# Altium schematic symbol library Phone.SchLib: 4 symbols
Pins are listed as number, name and electrical type; pins without a type are passive.

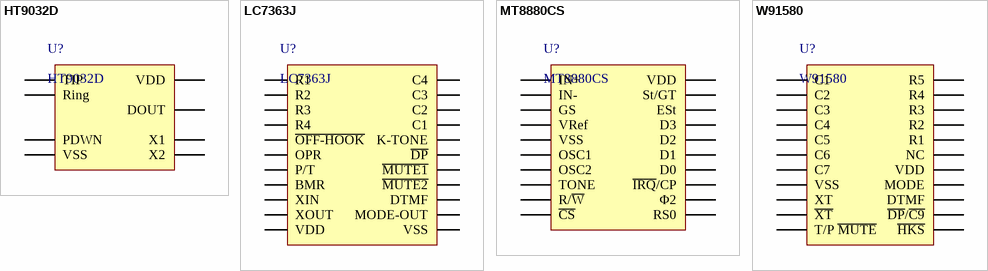
[diagram p0: symbols HT9032D to W91580]

## HT9032D
designator U?
Calling Line Identification Receiver
footprint DIP8
footprint TSSOP8
pins: 1 DOUT, 2 VDD, 3 TIP, 4 Ring, 5 PDWN, 6 VSS, 7 X2, 8 X1

## LC7363J
designator U?
DTMF/PULSE Switchable Dialer
footprint DIP22
pins: 1 R1, 2 R2, 3 R3, 4 R4, 5 ~{OFF-HOOK}, 6 OPR, 7 P/T, 8 BMR, 9 XIN, 10 XOUT, 11 VDD, 12 VSS, 13 MODE-OUT, 14 DTMF, 15 ~{MUTE2}, 16 ~{MUTE1}, 17 ~{DP}, 18 K-TONE, 19 C1, 20 C2, 21 C3, 22 C4

## MT8880CS
designator U?
Integrated DTMF Transceiver
footprint TSSOP20
pins: 1 IN+, 2 IN-, 3 GS, 4 VRef, 5 VSS, 6 OSC1, 7 OSC2, 8 TONE, 9 R/~{W}, 10 ~{CS}, 11 RS0, 12 Φ2, 13 ~{IRQ}/CP, 14 D0, 15 D1, 16 D2, 17 D3, 18 ESt, 19 St/GT, 20 VDD

## W91580
designator U?
24-MEMORY TONE/PULSE SWITCHABLE DIALER WITH HANDFREE AND HOLD FUNCTIONS
footprint DIP22
pins: 1 C1, 2 C2, 3 C3, 4 C4, 5 C5, 6 C6, 7 C7, 8 VSS, 9 XT, 10 ~{XT}, 11 T/P ~{MUTE}, 12 ~{HKS}, 13 ~{DP}/~{C9}, 14 DTMF, 15 MODE, 16 VDD, 17 NC, 18 R1, 19 R2, 20 R3, 21 R4, 22 R5